# EAGLE library part BTH-060-01-F-D-A (library pbxl)
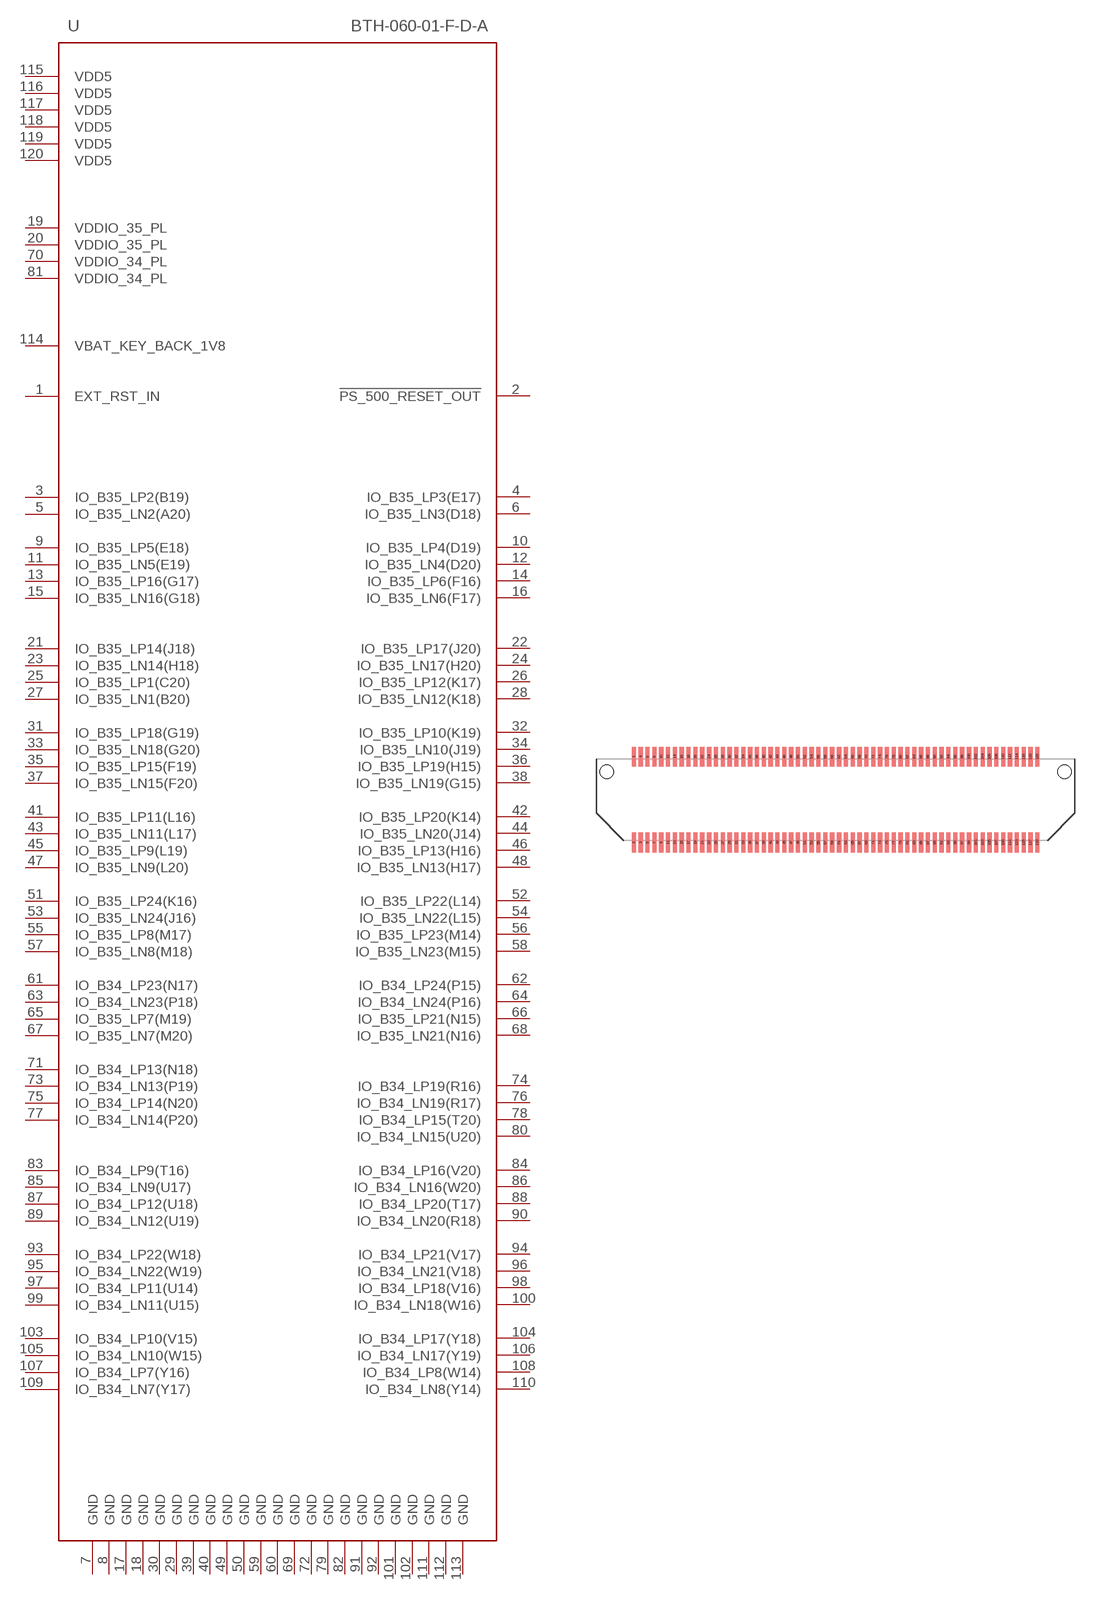
[diagram p4: symbol with the pads of BTH-060-01-F-D-A; footprint BTH-060-01-F-D-A]

Designator prefix -

## BTH-060-01-F-D-A  [BTH-060-01-F-D-A]
1  EXT_RST_IN
2  !PS_500_RESET_OUT!
3  IO_B35_LP2(B19)
4  IO_B35_LP3(E17)
5  IO_B35_LN2(A20)
6  IO_B35_LN3(D18)
7  GND
8  GND
9  IO_B35_LP5(E18)
10  IO_B35_LP4(D19)
11  IO_B35_LN5(E19)
12  IO_B35_LN4(D20)
13  IO_B35_LP16(G17)
14  IO_B35_LP6(F16)
15  IO_B35_LN16(G18)
16  IO_B35_LN6(F17)
17  GND
18  GND
19  VDDIO_35_PL
20  VDDIO_35_PL
21  IO_B35_LP14(J18)
22  IO_B35_LP17(J20)
23  IO_B35_LN14(H18)
24  IO_B35_LN17(H20)
25  IO_B35_LP1(C20)
26  IO_B35_LP12(K17)
27  IO_B35_LN1(B20)
28  IO_B35_LN12(K18)
29  GND
30  GND
31  IO_B35_LP18(G19)
32  IO_B35_LP10(K19)
33  IO_B35_LN18(G20)
34  IO_B35_LN10(J19)
35  IO_B35_LP15(F19)
36  IO_B35_LP19(H15)
37  IO_B35_LN15(F20)
38  IO_B35_LN19(G15)
39  GND
40  GND
41  IO_B35_LP11(L16)
42  IO_B35_LP20(K14)
43  IO_B35_LN11(L17)
44  IO_B35_LN20(J14)
45  IO_B35_LP9(L19)
46  IO_B35_LP13(H16)
47  IO_B35_LN9(L20)
48  IO_B35_LN13(H17)
49  GND
50  GND
51  IO_B35_LP24(K16)
52  IO_B35_LP22(L14)
53  IO_B35_LN24(J16)
54  IO_B35_LN22(L15)
55  IO_B35_LP8(M17)
56  IO_B35_LP23(M14)
57  IO_B35_LN8(M18)
58  IO_B35_LN23(M15)
59  GND
60  GND
61  IO_B34_LP23(N17)
62  IO_B34_LP24(P15)
63  IO_B34_LN23(P18)
64  IO_B34_LN24(P16)
65  IO_B35_LP7(M19)
66  IO_B35_LP21(N15)
67  IO_B35_LN7(M20)
68  IO_B35_LN21(N16)
69  GND
70  VDDIO_34_PL
71  IO_B34_LP13(N18)
72  GND
73  IO_B34_LN13(P19)
74  IO_B34_LP19(R16)
75  IO_B34_LP14(N20)
76  IO_B34_LN19(R17)
77  IO_B34_LN14(P20)
78  IO_B34_LP15(T20)
79  GND
80  IO_B34_LN15(U20)
81  VDDIO_34_PL
82  GND
83  IO_B34_LP9(T16)
84  IO_B34_LP16(V20)
85  IO_B34_LN9(U17)
86  IO_B34_LN16(W20)
87  IO_B34_LP12(U18)
88  IO_B34_LP20(T17)
89  IO_B34_LN12(U19)
90  IO_B34_LN20(R18)
91  GND
92  GND
93  IO_B34_LP22(W18)
94  IO_B34_LP21(V17)
95  IO_B34_LN22(W19)
96  IO_B34_LN21(V18)
97  IO_B34_LP11(U14)
98  IO_B34_LP18(V16)
99  IO_B34_LN11(U15)
100  IO_B34_LN18(W16)
101  GND
102  GND
103  IO_B34_LP10(V15)
104  IO_B34_LP17(Y18)
105  IO_B34_LN10(W15)
106  IO_B34_LN17(Y19)
107  IO_B34_LP7(Y16)
108  IO_B34_LP8(W14)
109  IO_B34_LN7(Y17)
110  IO_B34_LN8(Y14)
111  GND
112  GND
113  GND
114  VBAT_KEY_BACK_1V8
115  VDD5
116  VDD5
117  VDD5
118  VDD5
119  VDD5
120  VDD5

## Footprint BTH-060-01-F-D-A (pad centres in mm)
smd 0.305 x 1.448: 1 -14.75,3.136; 2 -14.75,-3.136; 3 -14.25,-3.136; 4 -14.25,3.136; 5 -13.75,-3.136; 6 -13.75,3.136; 7 -13.25,-3.136; 8 -13.25,3.136; 9 -12.75,-3.136; 10 -12.75,3.136; 11 -12.25,-3.136; 12 -12.25,3.136; 13 -11.75,-3.136; 14 -11.75,3.136; 15 -11.25,-3.136; 16 -11.25,3.136; 17 -10.75,-3.136; 18 -10.75,3.136; 19 -10.25,-3.136; 20 -10.25,3.136; 21 -9.75,-3.136; 22 -9.75,3.136; 23 -9.25,-3.136; 24 -9.25,3.136; 25 -8.75,-3.136; 26 -8.75,3.136; 27 -8.25,-3.136; 28 -8.25,3.136; 29 -7.75,-3.136; 30 -7.75,3.136; 31 -7.25,-3.136; 32 -7.25,3.136; 33 -6.75,-3.136; 34 -6.75,3.136; 35 -6.25,-3.136; 36 -6.25,3.136; 37 -5.75,-3.136; 38 -5.75,3.136; 39 -5.25,-3.136; 40 -5.25,3.136; 41 -4.75,-3.136; 42 -4.75,3.136; 43 -4.25,-3.136; 44 -4.25,3.136; 45 -3.75,-3.136; 46 -3.75,3.136; 47 -3.25,-3.136; 48 -3.25,3.136; 49 -2.75,-3.136; 50 -2.75,3.136; 51 -2.25,-3.136; 52 -2.25,3.136; 53 -1.75,-3.136; 54 -1.75,3.136; 55 -1.25,-3.136; 56 -1.25,3.136; 57 -0.75,-3.136; 58 -0.75,3.136; 59 -0.25,-3.136; 60 -0.25,3.136; 61 0.25,-3.136; 62 0.25,3.136; 63 0.75,-3.136; 64 0.75,3.136; 65 1.25,-3.136; 66 1.25,3.136; 67 1.75,-3.136; 68 1.75,3.136; 69 2.25,-3.136; 70 2.25,3.136; 71 2.75,-3.136; 72 2.75,3.136; 73 3.25,-3.136; 74 3.25,3.136; 75 3.75,-3.136; 76 3.75,3.136; 77 4.25,-3.136; 78 4.25,3.136; 79 4.75,-3.136; 80 4.75,3.136; 81 5.25,-3.136; 82 5.25,3.136; 83 5.75,-3.136; 84 5.75,3.136; 85 6.25,-3.136; 86 6.25,3.136; 87 6.75,-3.136; 88 6.75,3.136; 89 7.25,-3.136; 90 7.25,3.136; 91 7.75,-3.136; 92 7.75,3.136; 93 8.25,-3.136; 94 8.25,3.136; 95 8.75,-3.136; 96 8.75,3.136; 97 9.25,-3.136; 98 9.25,3.136; 99 9.75,-3.136; 100 9.75,3.136; 101 10.25,-3.136; 102 10.25,3.136; 103 10.75,-3.136; 104 10.75,3.136; 105 11.25,-3.136; 106 11.25,3.136; 107 11.75,-3.136; 108 11.75,3.136; 109 12.25,-3.136; 110 12.25,3.136; 111 12.75,-3.136; 112 12.75,3.136; 113 13.25,-3.136; 114 13.25,3.136; 115 13.75,-3.136; 116 13.75,3.136; 117 14.25,-3.136; 118 14.25,3.136; 119 14.75,-3.136; 120 14.75,3.136
hole 1.016 at -16.738,2.032
hole 1.016 at 16.738,2.032